# EAGLE library part P-MOSFET-2 (library common-parts)
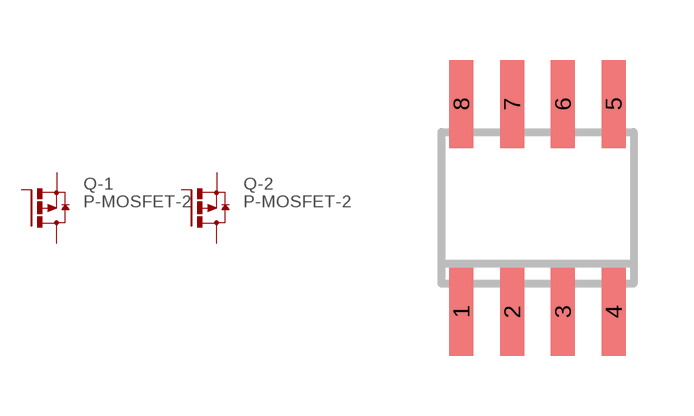
[diagram p0: symbol with the pads of SO8-KEEPOUT; footprint SO8-KEEPOUT]

Designator prefix Q; gates -1=MOSFET_P -2=MOSFET_P

## P-MOSFET-2  [SO8-KEEPOUT]
1  -1:S  pas
2  -1:G  pas
3  -2:S  pas
4  -2:G  pas
5  -2:D  pas
6  -2:D  pas
7  -1:D  pas
8  -1:D  pas

## Footprint SO8-KEEPOUT (pad centres in mm)
smd 0.6 x 2.2: 1 -1.905,-2.6; 2 -0.635,-2.6; 3 0.635,-2.6; 4 1.905,-2.6; 5 1.905,2.6; 6 0.635,2.6; 7 -0.635,2.6; 8 -1.905,2.6